# Altium footprint library Jumper.PcbLib: 21 footprints (part 2 of 2)
Each footprint in its own frame and in the unit in brackets; x right, y up, seen from the top. Pads: shape width x height; smd on the part's side, far side on the other; paste and mask are expansions set on the pad; w line width, h text height; cw(c..) or ccw(c..) is an arc to the next point about the centre after c.
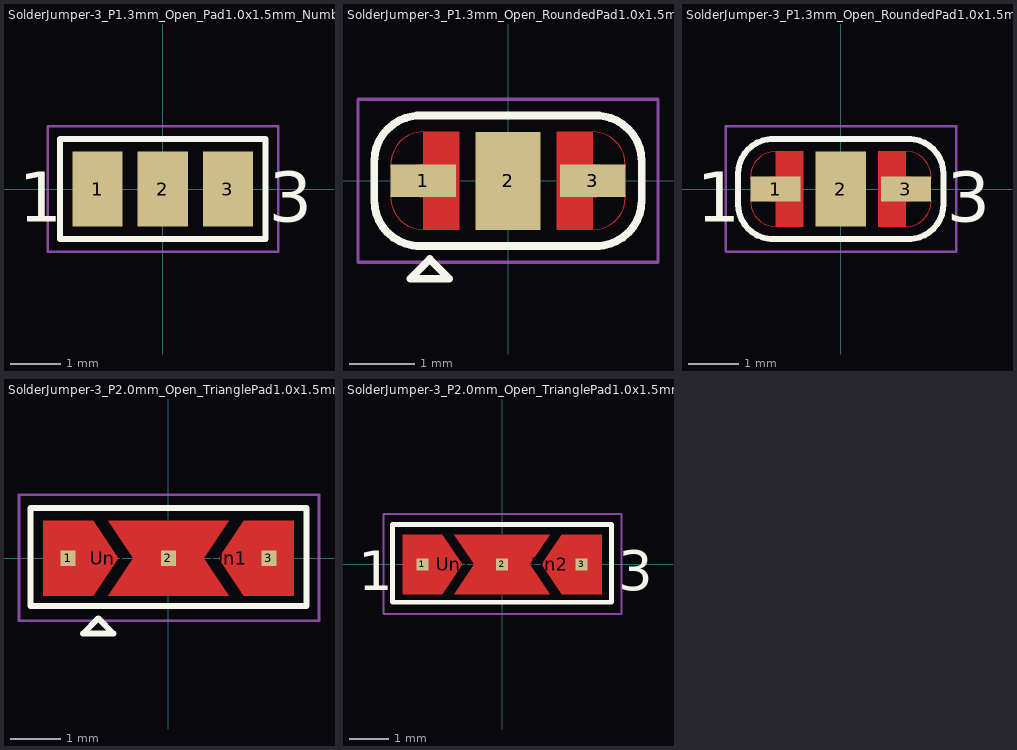
[diagram p1: the footprints below, top view; thin cyan lines are the x and y axes]

## SolderJumper-3_P1.3mm_Open_Pad1.0x1.5mm_NumberLabels [mm]
pads (3):
  rect 1x1.5 smd: 1(-1.3,0) 2(0,0) 3(1.3,0)
F.SilkS:
  lines w0.12: -2.05,-1 -2.05,1 2.05,1 2.05,-1 -2.05,-1
  text "1" at -2.869,-0.65 h1
  text "3" at 2.117,-0.65 h1
F.CrtYd:
  lines w0.05: -2.3,-1.25 -2.3,1.25 2.3,1.25 2.3,-1.25 -2.3,-1.25

## SolderJumper-3_P1.3mm_Open_RoundedPad1.0x1.5mm [mm]
pads (3):
  rect 1x0.5 smd: 1(-1.3,0) 3(1.3,0)
  rect 1x1.5 smd: 2(0,0)
F.Cu:
  circle w0: c-1.3,-0.25 r0.5
  circle w0: c-1.3,0.25 r0.5
  region: -0.75,-0.75 -1.3,-0.75 -1.3,0.75 -0.75,0.75
  circle w0: c1.3,-0.25 r0.5
  circle w0: c1.3,0.25 r0.5
  region: 1.3,-0.75 0.75,-0.75 0.75,0.75 1.3,0.75
F.SilkS:
  lines w0.12: -1.4,-1 1.4,-1 ; -1.4,1 1.4,1 ; -1.35,-1 cw(c-1.35,-0.3) -2.05,-0.3 -2.05,0.3 cw(c-1.35,0.3) -1.35,1 ; 1.35,-1 ccw(c1.35,-0.3) 2.05,-0.3 2.05,0.3 ccw(c1.35,0.3) 1.35,1 ; -1.5,-1.5 -1.2,-1.2 -0.9,-1.5 -1.5,-1.5
F.Mask:
  circle w0: c-1.3,-0.25 r0.5
  circle w0: c-1.3,0.25 r0.5
  region: -0.75,-0.75 -1.3,-0.75 -1.3,0.75 -0.75,0.75
  circle w0: c1.3,-0.25 r0.5
  circle w0: c1.3,0.25 r0.5
  region: 1.3,-0.75 0.75,-0.75 0.75,0.75 1.3,0.75
F.CrtYd:
  lines w0.05: -2.3,-1.25 -2.3,1.25 2.3,1.25 2.3,-1.25 -2.3,-1.25

## SolderJumper-3_P1.3mm_Open_RoundedPad1.0x1.5mm_NumberLabels [mm]
pads (3):
  rect 1x0.5 smd: 1(-1.3,0) 3(1.3,0)
  rect 1x1.5 smd: 2(0,0)
F.Cu:
  circle w0: c-1.3,-0.25 r0.5
  circle w0: c-1.3,0.25 r0.5
  region: -0.75,-0.75 -1.3,-0.75 -1.3,0.75 -0.75,0.75
  circle w0: c1.3,-0.25 r0.5
  circle w0: c1.3,0.25 r0.5
  region: 1.3,-0.75 0.75,-0.75 0.75,0.75 1.3,0.75
F.SilkS:
  lines w0.12: -1.4,-1 1.4,-1 ; -1.4,1 1.4,1 ; -1.35,-1 cw(c-1.35,-0.3) -2.05,-0.3 -2.05,0.3 cw(c-1.35,0.3) -1.35,1 ; 1.35,-1 ccw(c1.35,-0.3) 2.05,-0.3 2.05,0.3 ccw(c1.35,0.3) 1.35,1
  text "1" at -2.869,-0.65 h1
  text "3" at 2.117,-0.65 h1
F.Mask:
  circle w0: c-1.3,-0.25 r0.5
  circle w0: c-1.3,0.25 r0.5
  region: -0.75,-0.75 -1.3,-0.75 -1.3,0.75 -0.75,0.75
  circle w0: c1.3,-0.25 r0.5
  circle w0: c1.3,0.25 r0.5
  region: 1.3,-0.75 0.75,-0.75 0.75,0.75 1.3,0.75
F.CrtYd:
  lines w0.05: -2.3,-1.25 2.3,-1.25 2.3,1.25 -2.3,1.25 -2.3,-1.25

## SolderJumper-3_P2.0mm_Open_TrianglePad1.0x1.5mm [mm]
pads (5):
  rect 0.3x0.3 smd: 1(-2,0) 2(0,0) 3(2,0)
  rect 1.5x1.5 on Top Solder: Un1(1.2,0) Un2(-1.2,0)
F.Cu:
  region: -1,0 -1.5,-0.75 -2.5,-0.75 -2.5,0.75 -1.5,0.75
  region: 0.7,0 1.2,-0.75 -1.2,-0.75 -0.7,0 -1.2,0.75 1.2,0.75
  region: 2.5,-0.75 1.5,-0.75 1,0 1.5,0.75 2.5,0.75
F.SilkS:
  lines w0.12: -2.75,-0.95 -2.75,1 2.75,1 2.75,-0.95 -2.75,-0.95 ; -1.7,-1.5 -1.1,-1.5 -1.4,-1.2 -1.7,-1.5
F.Mask:
  region: -1,0 -1.5,-0.75 -2.5,-0.75 -2.5,0.75 -1.5,0.75
  region: 2.5,-0.75 1.5,-0.75 1,0 1.5,0.75 2.5,0.75
F.CrtYd:
  lines w0.05: -2.98,-1.25 -2.98,1.27 3,1.27 3,-1.25 -2.98,-1.25

## SolderJumper-3_P2.0mm_Open_TrianglePad1.0x1.5mm_NumberLabels [mm]
pads (5):
  rect 0.3x0.3 smd: 1(-2,0) 2(0,0) 3(2,0)
  rect 1.5x1.5 on Top Solder: Un1(-1.2,0) Un2(1.2,0)
F.Cu:
  region: -1,0 -1.5,-0.75 -2.5,-0.75 -2.5,0.75 -1.5,0.75
  region: 0.7,0 1.2,-0.75 -1.2,-0.75 -0.7,0 -1.2,0.75 1.2,0.75
  region: 2.5,-0.75 1.5,-0.75 1,0 1.5,0.75 2.5,0.75
F.SilkS:
  lines w0.12: -2.75,-0.95 -2.75,1 2.75,1 2.75,-0.95 -2.75,-0.95
  text "1" at -3.619,-0.65 h1
  text "3" at 2.917,-0.65 h1
F.Mask:
  region: -1,0 -1.5,-0.75 -2.5,-0.75 -2.5,0.75 -1.5,0.75
  region: 2.5,-0.75 1.5,-0.75 1,0 1.5,0.75 2.5,0.75
F.CrtYd:
  lines w0.05: -2.98,-1.25 -2.98,1.27 3,1.27 3,-1.25 -2.98,-1.25